# EAGLE library part 305G (library rs41)
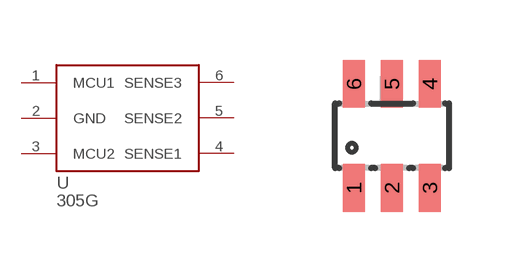
[diagram p7: symbol with the pads of SOT23-6; footprint SOT23-6]

Designator prefix U

## 305G  [SOT23-6]
1  MCU1
2  GND
3  MCU2
4  SENSE1
5  SENSE2
6  SENSE3

## Footprint SOT23-6 (pad centres in mm)
smd 0.55 x 1.2: 1 -0.95,-1.3; 2 0,-1.3; 3 0.95,-1.3; 4 0.95,1.3; 5 0,1.3; 6 -0.95,1.3